# EAGLE library part BM05B-GHS-TBT (library connectors)
JST GH 5P Vertical Header
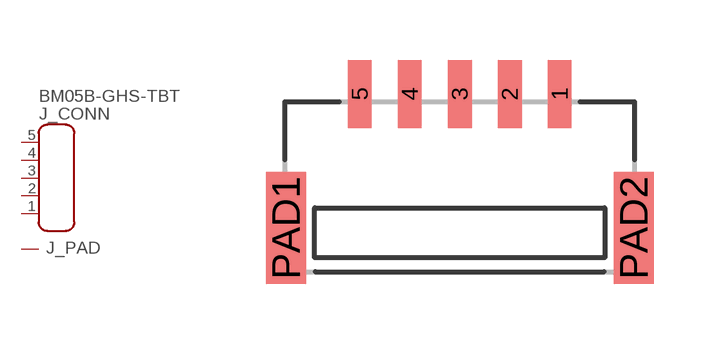
[diagram p8: symbol with the pads of BM05B-GHS-TBT; footprint BM05B-GHS-TBT]

Designator prefix J; gates _CONN=CONN5 _PAD=PAD

## BM05B-GHS-TBT (MF: JST; MPN: BM05B-GHS-TBT(LF)(SN)(N); REVIEWED: NO; TESTED: NO)  [BM05B-GHS-TBT]
1  _CONN:1
2  _CONN:2
3  _CONN:3
4  _CONN:4
5  _CONN:5
PAD1  _PAD:PAD
PAD2  _PAD:PAD

## Footprint BM05B-GHS-TBT (pad centres in mm)
smd 0.6 x 1.7: 1 2.5,3.35; 2 1.25,3.35; 3 0,3.35; 4 -1.25,3.35; 5 -2.5,3.35
smd 1 x 2.8: PAD1 -4.35,0; PAD2 4.35,0